# EAGLE library part CUBE-RCPT-CONN (library umich)
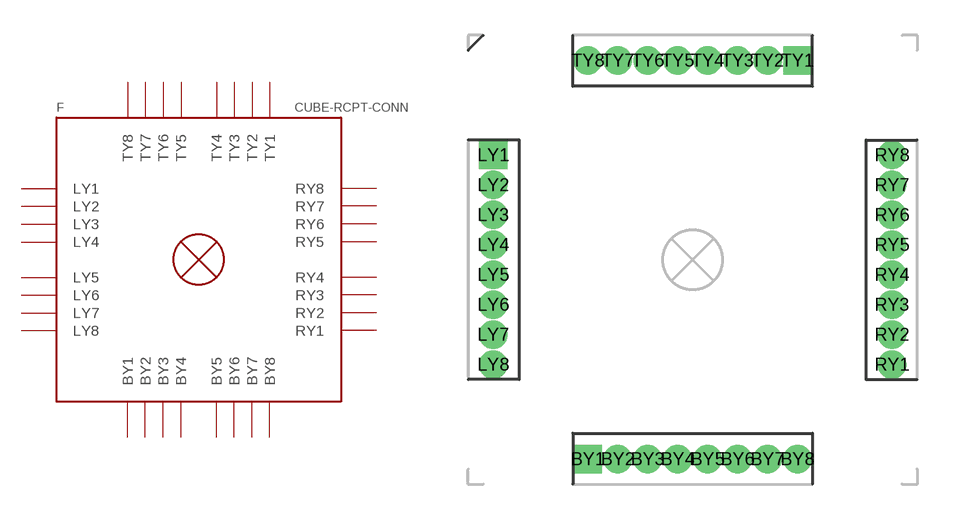
[diagram p9: symbol with the pads of CUBE-RCPT-CONN; footprint CUBE-RCPT-CONN]

Designator prefix F

## CUBE-RCPT-CONN  [CUBE-RCPT-CONN]
BY1  BY1
BY2  BY2
BY3  BY3
BY4  BY4
BY5  BY5
BY6  BY6
BY7  BY7
BY8  BY8
LY1  LY1
LY2  LY2
LY3  LY3
LY4  LY4
LY5  LY5
LY6  LY6
LY7  LY7
LY8  LY8
RY1  RY1
RY2  RY2
RY3  RY3
RY4  RY4
RY5  RY5
RY6  RY6
RY7  RY7
RY8  RY8
TY1  TY1
TY2  TY2
TY3  TY3
TY4  TY4
TY5  TY5
TY6  TY6
TY7  TY7
TY8  TY8

## Footprint CUBE-RCPT-CONN (pad centres in mm)
drill 0.7 pad 1.067 square: BY1 -4.445,-8.458; LY1 -8.458,4.445; TY1 4.445,8.458
drill 0.7 pad 1.067: BY2 -3.175,-8.458; BY3 -1.905,-8.458; BY4 -0.635,-8.458; BY5 0.635,-8.458; BY6 1.905,-8.458; BY7 3.175,-8.458; BY8 4.445,-8.458; LY2 -8.458,3.175; LY3 -8.458,1.905; LY4 -8.458,0.635; LY5 -8.458,-0.635; LY6 -8.458,-1.905; LY7 -8.458,-3.175; LY8 -8.458,-4.445; RY1 8.458,-4.445; RY2 8.458,-3.175; RY3 8.458,-1.905; RY4 8.458,-0.635; RY5 8.458,0.635; RY6 8.458,1.905; RY7 8.458,3.175; RY8 8.458,4.445; TY2 3.175,8.458; TY3 1.905,8.458; TY4 0.635,8.458; TY5 -0.635,8.458; TY6 -1.905,8.458; TY7 -3.175,8.458; TY8 -4.445,8.458